# Altium schematic symbol library 电源.SCHLIB: 8 symbols
Pins are listed as number, name and electrical type; pins without a type are passive.

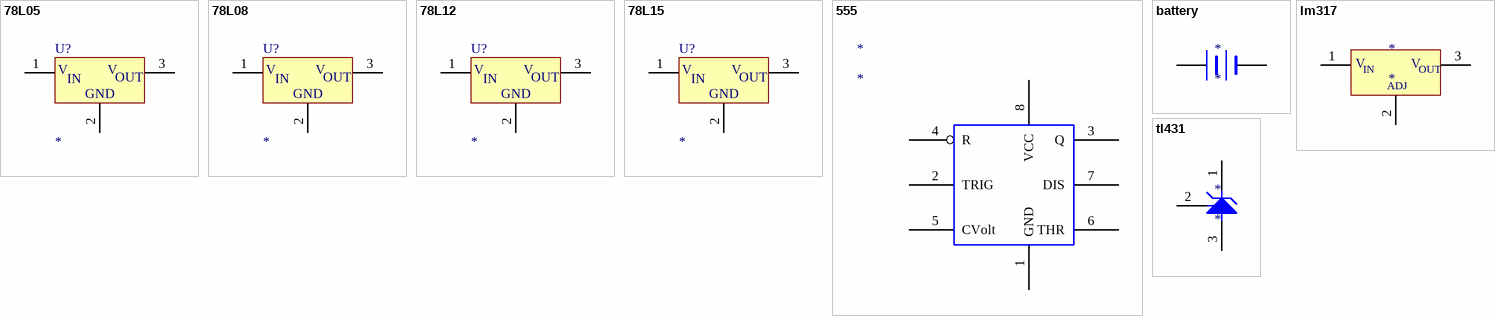
[diagram p0: symbols 78L05 to tl431]

## 78L05
designator U?
3-Terminal Positive Voltage Regulator
footprint 78XX
simulation model 78L05 (SUBCKT)
pins: 1 VIN, 2 GND, 3 VOUT
text: V; IN; OUT

## 78L08
designator U?
3-Terminal Positive Voltage Regulator
footprint 78XX
simulation model 78L08 (SUBCKT)
pins: 1 VIN, 2 GND, 3 VOUT
text: V; IN; OUT

## 78L12
designator U?
3-Terminal Positive Voltage Regulator
footprint 78XX
simulation model 78L12 (SUBCKT)
pins: 1 VIN, 2 GND, 3 VOUT
text: V; IN; OUT

## 78L15
designator U?
3-Terminal Positive Voltage Regulator
footprint 78XX
simulation model 78L15 (SUBCKT)
pins: 1 VIN, 2 GND, 3 VOUT
text: V; IN; OUT

## 555
designator *
pins: 1 GND, 2 TRIG, 3 Q, 4 R, 5 CVolt, 6 THR, 7 DIS, 8 VCC

## battery
designator *
pins: 1 +, 2 -

## lm317
designator *
pins: 1 VIN, 2 ADJ, 3 VOUT
text: V; IN; OUT

## tl431
designator *
pins: 1 K, 2 R, 3 A